# Altium schematic symbol library IDC7328ER102M.Schlib: 1 symbol
Pins are listed as number, name and electrical type; pins without a type are passive.

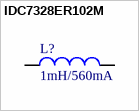
[diagram p0: symbol IDC7328ER102M]

## IDC7328ER102M
designator L?, comment 1mH/560mA
Power Inductor 1000uH 560mA
pins: 1, 2